# Altium schematic symbol library DC_regulators.SchLib: 4 symbols
Pins are listed as number, name and electrical type; pins without a type are passive.

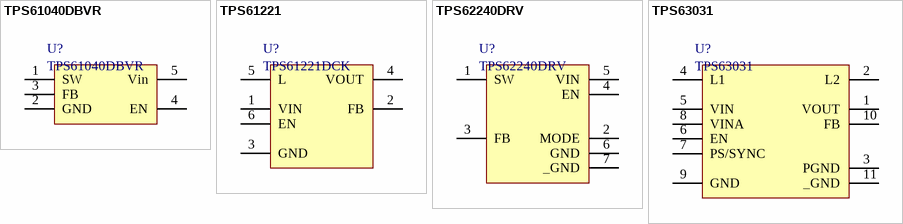
[diagram p0: symbols TPS61040DBVR to TPS63031]

## TPS61040DBVR
designator U?
LOW-POWER DC/DC BOOST CONVERTER IN SOT-23 AND SON PACKAGES; datasheet: http://www.ti.com/lit/ds/symlink/tps61041.pdf
pins: 1 SW, 2 GND, 3 FB, 4 EN, 5 Vin

## TPS61221
designator U?, comment TPS61221DCK
LOW INPUT VOLTAGE STEP-UP CONVERTER IN 6 PIN SC-70 PACKAGE; datasheet: http://www.ti.com/lit/ds/symlink/tps61220.pdf
pins: 1 VIN, 2 FB, 3 GND, 4 VOUT, 5 L, 6 EN

## TPS62240DRV
designator U?
2.25 MHz 300 mA Step Down Converter in 2x2SON/TSOT23 Package; datasheet: http://www.ti.com/lit/ds/symlink/tps62240.pdf
pins: 1 SW, 2 MODE, 3 FB, 4 EN, 5 VIN, 6 GND, 7 _GND

## TPS63031
designator U?
HIGH EFFICIENCY SINGLE INDUCTOR BUCK-BOOST CONVERTER WITH 1-A SWITCHES; datasheet: http://www.ti.com/lit/ds/symlink/tps63031.pdf
pins: 1 VOUT, 2 L2, 3 PGND, 4 L1, 5 VIN, 6 EN, 7 PS/SYNC, 8 VINA, 9 GND, 10 FB, 11 _GND